# EAGLE library part OPA2380 (library ardustat)
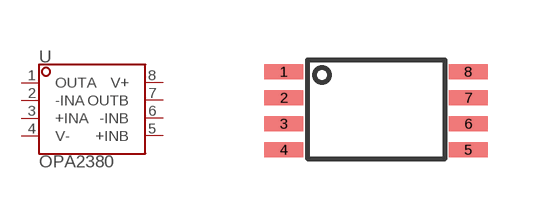
[diagram p7: symbol with the pads of OPA2380; footprint OPA2380]

Designator prefix -

## OPA2380OPA2380  [OPA2380]
1  OUTA  out
2  -INA  in
3  +INA  in
4  V-  pwr
5  +INB  in
6  -INB  in
7  OUTB  out
8  V+  pwr

## Footprint OPA2380 (pad centres in mm)
smd 0.975 x 0.38: 1 -2.259,0.982; 2 -2.259,0.332; 3 -2.259,-0.318; 4 -2.259,-0.968; 5 2.351,-0.968; 6 2.351,-0.318; 7 2.351,0.332; 8 2.351,0.982